# Altium schematic symbol library WE_FB.SchLib: 1 symbol
Pins are listed as number, name and electrical type; pins without a type are passive.

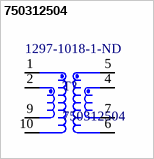
[diagram p0: symbol 750312504]

## 750312504
designator T?  Supplier Part Number 1: 1297-1018-1-ND
Wurth Electronics / DCDC Transformer / 750312504; Supplier 1: Digi-Key
footprint 750312504
pins: 1, 2, 4, 5, 6, 7, 9, 10